# EAGLE library part STM8L151GXUX (library IPNS_Lib)
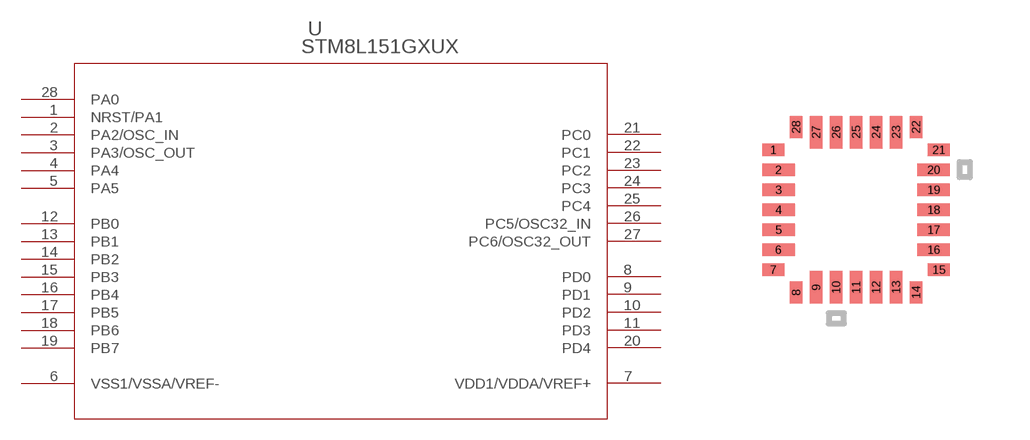
[diagram p7: symbol with the pads of UFQFPN-28; footprint UFQFPN-28]

Designator prefix U

## STM8L151GXUX (COPYRIGHT: Copyright (C) 2016 Accelerated Designs. All rights reserved; MANUFACTURER_PART_NUMBER: stm8l151gxux; VENDOR: ST Microelectronics)  [UFQFPN-28]
1  NRST/PA1
2  PA2/OSC_IN
3  PA3/OSC_OUT
4  PA4
5  PA5
6  VSS1/VSSA/VREF-  pwr
7  VDD1/VDDA/VREF+  pwr
8  PD0
9  PD1
10  PD2
11  PD3
12  PB0
13  PB1
14  PB2
15  PB3
16  PB4
17  PB5
18  PB6
19  PB7
20  PD4
21  PC0
22  PC1
23  PC2
24  PC3
25  PC4
26  PC5/OSC32_IN
27  PC6/OSC32_OUT
28  PA0

## Footprint UFQFPN-28 (pad centres in mm)
smd 0.559 x 0.305: 1 -2.07,1.5; 7 -2.07,-1.5; 15 2.07,-1.5; 21 2.07,1.5
smd 0.813 x 0.305: 2 -1.943,1; 3 -1.943,0.5; 4 -1.943,0; 5 -1.943,-0.5; 6 -1.943,-1; 16 1.943,-1; 17 1.943,-0.5; 18 1.943,0; 19 1.943,0.5; 20 1.943,1
smd 0.305 x 0.559: 8 -1.5,-2.07; 14 1.5,-2.07; 22 1.5,2.07; 28 -1.5,2.07
smd 0.305 x 0.813: 9 -1,-1.943; 10 -0.5,-1.943; 11 0,-1.943; 12 0.5,-1.943; 13 1,-1.943; 23 1,1.943; 24 0.5,1.943; 25 0,1.943; 26 -0.5,1.943; 27 -1,1.943